# Altium integrated library Motion Sensors - IMUs.IntLib: 3 symbols
Pins are listed as number, name and electrical type; pins without a type are passive.

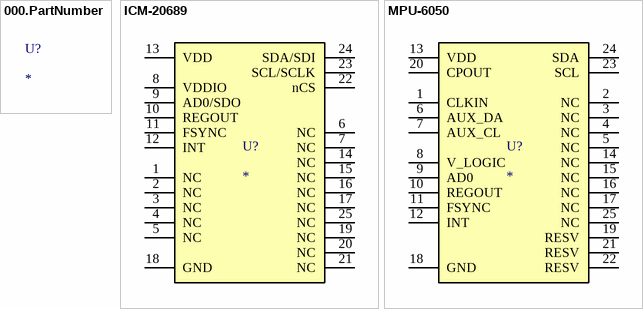
[diagram p0: symbols 000.PartNumber to MPU-6050]

## 000.PartNumber
designator U?
Digikey Description; Manufacturer: *; Series: *; Package: *; Sensor Type: *; Output Type: *; Operating Temperature: *; Package / Case: *; Supplier Device Package: *; Mounting Type: *; Ozdisan Link: *; Digikey Link: *

## ICM-20689
designator U?
IMU ACCEL/GYRO/TEMP I2C/SPI QFN; Manufacturer: TDK InvenSense; Sensor Type: Accelerometer, Gyroscope, Temperature, 6 Axis; Output Type: I²C, SPI; Series: -; Package: Tape & Reel (TR); Operating Temperature: -40°C ~ 85°C (TA); Package / Case: 24-VFQFN Module Exposed Pad; Supplier Device Package: 24-QFN (4x4); Mounting Type: Surface Mount; Ozdisan Link: -; Digikey Link: https://www.digikey.com/en/products/detail/tdk-invensense/ICM-20689/5872869
footprint TDK_24-QFN(4X4)
pins: 1 NC, 2 NC, 3 NC, 4 NC, 5 NC, 6 NC, 7 NC, 8 VDDIO, 9 AD0/SDO, 10 REGOUT, 11 FSYNC, 12 INT, 13 VDD, 14 NC, 15 NC, 16 NC, 17 NC, 18 GND, 19 NC, 20 NC, 21 NC, 22 nCS, 23 SCL/SCLK, 24 SDA/SDI, 25 NC

## MPU-6050
designator U?
IMU ACCEL/GYRO 3-AXIS I2C 24QFN; Manufacturer: TDK InvenSense; Sensor Type: Accelerometer, Gyroscope, 6 Axis; Output Type: I²C; Series: -; Package: Tape & Reel (TR); Operating Temperature: -40°C ~ 85°C (TA); Package / Case: 24-VFQFN Module Exposed Pad; Supplier Device Package: 24-QFN (4x4); Mounting Type: Surface Mount; Ozdisan Link: https://ozdisan.com/optolar-ve-sensorler/sensorler/ivmeolcerler/MPU-6050; Digikey Link: https://www.digikey.com/en/products/detail/tdk-invensense/MPU-6050/4038009
footprint TDK_24-QFN(4X4)
pins: 1 CLKIN, 2 NC, 3 NC, 4 NC, 5 NC, 6 AUX_DA, 7 AUX_CL, 8 V_LOGIC, 9 AD0, 10 REGOUT, 11 FSYNC, 12 INT, 13 VDD, 14 NC, 15 NC, 16 NC, 17 NC, 18 GND, 19 RESV, 20 CPOUT, 21 RESV, 22 RESV, 23 SCL, 24 SDA, 25 NC